# Altium integrated library MAX14759ETAT.IntLib: 1 symbol
Pins are listed as number, name and electrical type; pins without a type are passive.

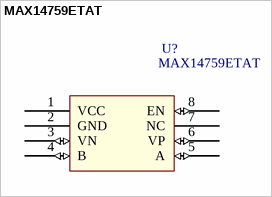
[diagram p0: symbol MAX14759ETAT]

## MAX14759ETAT
designator U?
Analogue Switch, SPST, 1, 1 ohm, 3V to 5.5V, TDFN, 8; MF: Maxim Integrated; MP: MAX14759ETA+T; Digi-Key_Purchase_URL: https://www.digikey.com/product-detail/en/maxim-integrated/MAX14759ETA-T/MAX14759ETA-TCT-ND/7652957?utm_source=snapeda&utm_medium=aggregator&utm_campaign=symbol; Package: TDFN-8 Maxim Integrated; Digi-Key_Part_Number: MAX14759ETA+TCT-ND; SnapEDA_Link: https://www.snapeda.com/parts/MAX14759ETA%2BT/Maxim%20Integrated/view-part/?ref=snap; Value: *
footprint 21-0137I_T833-2
pins: 1 VCC (power), 2 GND (power), 3 VN (io), 4 B (io), 5 A (io), 6 VP (io), 7 NC, 8 EN (io)